# Altium schematic symbol library SCH - DIODES - ZENER_MMSZ5242B-7-F.SCHLIB: 1 symbol
Pins are listed as number, name and electrical type; pins without a type are passive.

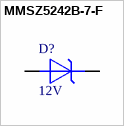
[diagram p0: symbol MMSZ5242B-7-F]

## MMSZ5242B-7-F
designator D?, comment 12V
Diode, Zener, 12V, 0.5W; Manufacturer: Diodes Incorporated; Manufacturer Part Number: MMSZ5242B-7-F; Category: zener; Package: SOD-123; Supplier: Mouser; Supplier Part Number 1: 621-MMSZ5242B-F; Mounting Style: SMT; Pins: 2; Power: 0.5W; Voltage: 12V
footprint DIOM5226X240N
pins: 1 A, 2 K